# Altium footprint library RHX-NYFK-PCB11V1.011.PcbLib: 25 footprints (part 1 of 2)
Each footprint in its own frame and in the unit in brackets; x right, y up, seen from the top. Pads: shape width x height; smd on the part's side, far side on the other; paste and mask are expansions set on the pad; w line width, h text height; cw(c..) or ccw(c..) is an arc to the next point about the centre after c.
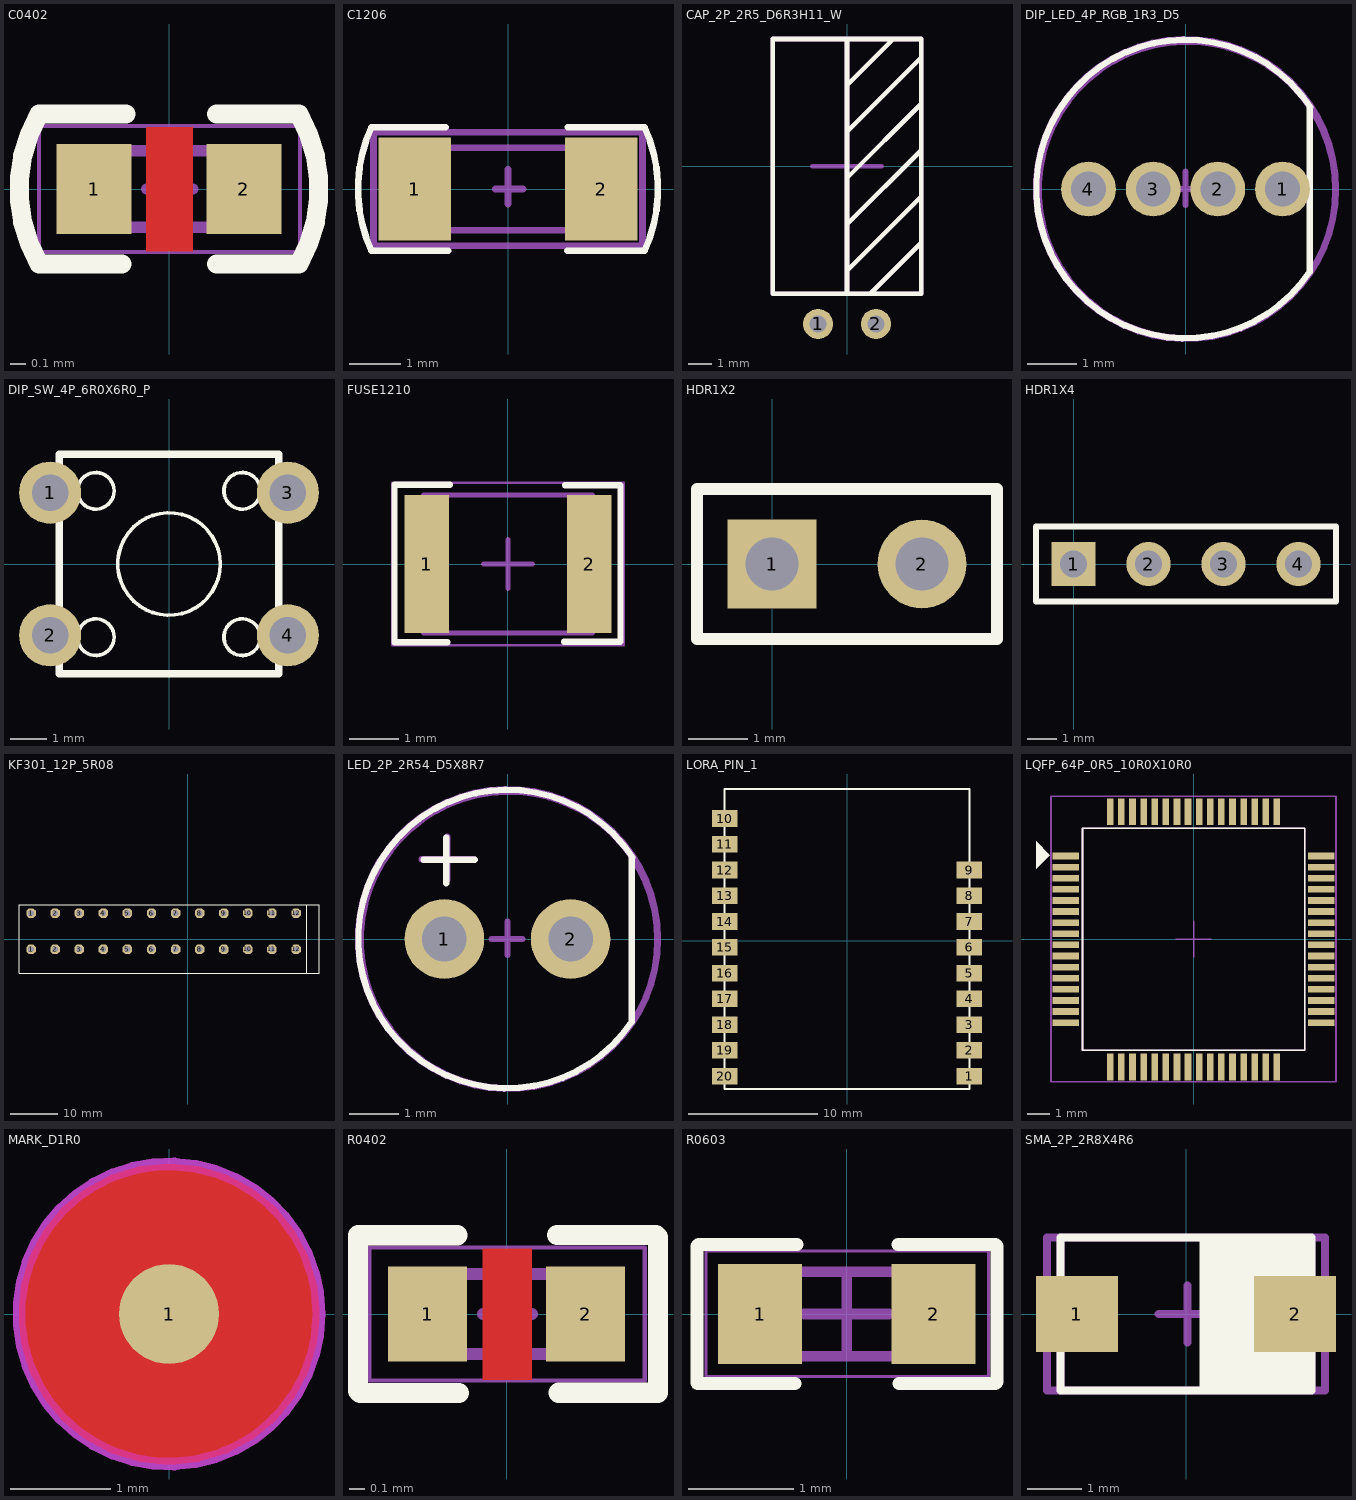
[diagram p0: the footprints below, top view; thin cyan lines are the x and y axes]

## C0402 [mm]
height 0.5
pads (2):
  rect 0.5x0.6 smd: 1(-0.5,0) 2(0.5,0)
Top Layer:
  pour cut-out: -0.15,0.413 -0.15,-0.416 0.16,-0.417 0.16,0.415
Top Overlay:
  lines w0.127: -0.866,-0.5 cw(c0,0) -0.866,0.5 ; -0.862,-0.5 -0.312,-0.5 ; -0.862,0.5 -0.287,0.5 ; 0.317,-0.5 0.866,-0.5 ccw(c0,0) 0.866,0.5 0.317,0.5
Mechanical 13:
  lines w0.076: -0.508,-0.254 0.508,-0.254 0.508,0.254 -0.508,0.254 -0.508,-0.254
Mechanical 15:
  lines w0.025: -0.866,-0.419 0.874,-0.419 0.874,0.419 -0.866,0.419 -0.866,-0.419
  lines w0.076: -0.15,0 0.16,0 ; 0,-0.21 0,0.2
3D body: height 0.01, standoff 0, extent -0.861,-0.429 0.879,0.409
3D body: height 0.51, standoff 0, extent -0.508,-0.254 0.508,0.254

## C1206 [mm]
height 0.5
pads (2):
  rect 1.4x2 smd: 1(-1.8,0) 2(1.8,0)
Top Overlay:
  lines w0.127: -1.204,1.196 -2.642,1.196 ccw(c0,0) -2.642,-1.196 -1.154,-1.196 ; 1.15,-1.196 2.642,-1.196 ccw(c0,0) 2.642,1.196 1.154,1.196
Mechanical 13:
  lines w0.127: -2,-0.8 2,-0.8 2,0.8 -0.4,0.8 -2,0.8 -2,-0.8
Mechanical 15:
  lines w0.127: -0.25,0 -0.001,0 0.29,0 ; 0,-0.29 0,0.38 ; -2.65,-1.1 2.6,-1.1 2.6,-0.75 2.6,1.1 -2.6,1.1 -2.6,-1.05 -2.65,-1.1
3D body: height 0.01, standoff 0, extent -2.601,-1.1 2.6,1.1
3D body: height 1.53, standoff 0, extent -2,-0.8 2,0.8

## CAP_2P_2R5_D6R3H11_W [mm]
height 0.5
pads (2):
  round 1.3 hole 0.75: 1(-1.25,-6.8) 2(1.25,-6.8)
Top Overlay:
  lines w0.2: 0,-5.5 0,5.5 ; 0,-4.5 3.2,-1.3 ; 0,-2.5 3.2,0.7 ; 0,-0.5 3.2,2.7 ; 0,1.5 3.2,4.7 ; 1,-5.5 3.2,-3.3 ; 2,5.5 0,3.5 ; 3,5.5 3.2,5.5 ; 0,3.5 0,3.5 ; 3.2,5.5 3.2,-5.5 -3.2,-5.5 -3.2,5.5 3.2,5.5 ; 0,4.5 0,4.5
Mechanical 13:
  lines w0.2: 0,-5.5 0,5.5 ; 0,-4.5 3.2,-1.3 ; 0,-2.5 3.2,0.7 ; 0,-0.5 3.2,2.7 ; 0,1.5 3.2,4.7 ; 1,-5.5 3.2,-3.3 ; 2,5.5 0,3.5 ; 3,5.5 3.2,5.5 ; 0,3.5 0,3.5 ; 3.2,5.5 -3.2,5.5 -3.2,-5.5 3.2,-5.5 3.2,5.5 ; 0,4.5 0,4.5
Mechanical 15:
  lines w0.2: -1.5,0 1.5,0 ; 0,-5.5 0,5.5 ; 0,-4.5 3.2,-1.3 ; 0,-2.5 3.2,0.7 ; 0,-1.5 0,1.5 3.2,4.7 ; 0,-0.5 3.2,2.7 ; 1,-5.5 3.2,-3.3 ; 2,5.5 0,3.5 ; 3,5.5 3.2,5.5 ; 0,3.5 0,3.5 ; 3.2,5.5 -3.2,5.5 -3.2,-5.5 3.2,-5.5 3.2,5.5 ; 0,4.5 0,4.5
3D body: height 6.38, standoff -2.8, extent -3.251,-7.66 3.1,5.661

## DIP_LED_4P_RGB_1R3_D5 [mm]
height 0.5
pads (4):
  round 1.1 hole 0.7: 1(1.95,0) 2(0.65,0) 3(-0.65,0) 4(-1.95,0)
Top Overlay:
  lines w0.127: 2.493,-1.669 cw(c0,0) 2.51,1.644 ; 2.5,-1.669 2.5,1.644
Mechanical 13:
  circle w0.127: c0.03,-0.02 r2.983
Mechanical 15:
  circle w0.127: c0.01,0 r3.015
  lines w0.127: -0.32,0 0.3,0 ; 0,-0.32 0,0.35
3D body: height 0.01, standoff 0, extent -2.98,-2.819 2.82,2.979
3D body: height 8.81, standoff -5.99, extent -2.98,-3.01 2.44,3.01

## DIP_SW_4P_6R0X6R0_P [mm]
height 0.5
pads (4):
  round 1.7 hole 1: 1(-3.25,1.95) 2(-3.25,-1.95) 3(3.25,1.95) 4(3.25,-1.95)
Top Overlay:
  circle w0.1: c0,0 r1.4
  circle w0.1: c-2,2 r0.5
  circle w0.1: c-2,-2 r0.5
  circle w0.1: c2,-2 r0.5
  circle w0.1: c2,2 r0.5
  circle w0.1: c0,0 r1.4
  circle w0.1: c-2,2 r0.5
  circle w0.1: c-2,-2 r0.5
  circle w0.1: c2,-2 r0.5
  circle w0.1: c2,2 r0.5
  circle w0.1: c2,2 r0.5
  circle w0.1: c2,-2 r0.5
  circle w0.1: c-2,-2 r0.5
  circle w0.1: c-2,2 r0.5
  circle w0.1: c0,0 r1.4
  lines w0.2: -3,-3 -3,3 ; -3,-3 3,-3 ; -3,-3 -3,3 ; -3,-3 3,-3 ; -3,-3 3,-3 ; -3,-3 -3,3 ; -3,3 3,3 ; -3,3 3,3 ; -3,3 3,3 ; 3,-3 3,3 ; 3,-3 3,3 ; 3,-3 3,3
3D body: height 7, standoff -3.5, extent -3.95,-3.1 3.95,3.1

## FUSE1210 [mm] "Chip Resistor, 2-Leads, Body 3.22x2.55mm, IPC Me"
height 0.8
pads (2):
  rect 0.9x2.8 smd: 1(-1.65,0) 2(1.65,0)
Top Overlay:
  lines w0.127: -1.23,-1.59 -2.31,-1.59 -2.31,1.61 -1.18,1.61 ; 1.14,-1.58 2.28,-1.58 2.29,-1.57 2.29,1.59 2.28,1.6 1.16,1.6
Mechanical 13:
  lines w0.1: -1.715,-1.4 -1.715,1.4 1.715,1.4 1.715,-1.4 -1.715,-1.4
Mechanical 15:
  lines w0.05: -2.35,-1.65 -2.35,1.65 2.35,1.65 2.35,-1.65 -2.35,-1.65
  lines w0.1: -0.5,0 0.5,0 ; 0,-0.5 0,0.5
3D body: height 0.01, standoff 0, extent -2.35,-1.65 2.35,1.65
3D body: height 0.67, standoff 0, extent -1.607,-1.287 1.608,1.288

## HDR1X2 [mm] "Connector; Header; 2"
height 0.5
pads (2):
  rect 1.5x1.5 hole 0.9: 1(0,0)
  round 1.5 hole 0.9: 2(2.54,0)
Top Overlay:
  lines w0.2: -1.27,-1.27 -1.27,1.27 3.81,1.27 3.81,-1.27 -1.27,-1.27

## HDR1X4 [mm] "Connector; Header; 4 Posi"
height 0.5
pads (4):
  rect 1.5x1.5 hole 0.9: 1(0,0)
  round 1.5 hole 0.9: 2(2.54,0) 3(5.08,0) 4(7.62,0)
Top Overlay:
  lines w0.2: -1.27,-1.27 -1.27,1.27 8.89,1.27 8.89,-1.27 -1.27,-1.27

## KF301_12P_5R08 [mm]
height 0.5
pads (24):
  oct 2x2 hole 1.2: 1(-33.02,-2.17) 1(-33.02,5.45) 2(-27.94,-2.17) 2(-27.94,5.45) 3(-22.86,-2.17) 3(-22.86,5.45) 4(-17.78,-2.17) 4(-17.78,5.45) 5(-12.7,-2.17) 5(-12.7,5.45) 6(-7.62,-2.17) 6(-7.62,5.45) 7(-2.54,-2.17) 7(-2.54,5.45) 8(2.54,-2.17) 8(2.54,5.45) 9(7.62,-2.17) 9(7.62,5.45) 10(12.7,-2.17) 10(12.7,5.45) 11(17.78,-2.17) 11(17.78,5.45) 12(22.86,-2.17) 12(22.86,5.45)
Top Overlay:
  lines w0.2: 25.16,-7.2 -35.56,-7.2 -35.56,7.2 25.16,7.2 ; 25.16,-7.2 25.16,7.2 ; 25.16,-7.2 27.7,-7.2 27.7,7.2 25.16,7.2
3D body: height 9.4, standoff 6.6, extent 16.3,-7.4 19.1,-6.4
3D body: height 9.4, standoff 6.6, extent 21.38,-7.4 24.18,-6.4
3D body: height 9.4, standoff 6.6, extent 6.14,-7.4 8.94,-6.4
3D body: height 9.4, standoff 6.6, extent 11.22,-7.4 14.02,-6.4
3D body: height 9.4, standoff 6.6, extent 16.3,-7.4 19.1,-6.4
3D body: height 9.4, standoff 6.6, extent 21.38,-7.4 24.18,-6.4
3D body: height 9.4, standoff 6.6, extent -14.18,-7.4 -11.38,-6.4
3D body: height 9.4, standoff 6.6, extent -9.1,-7.4 -6.3,-6.4
3D body: height 9.4, standoff 6.6, extent -4.02,-7.4 -1.22,-6.4
3D body: height 9.4, standoff 6.6, extent 1.06,-7.4 3.86,-6.4
3D body: height 9.4, standoff 6.6, extent -19.26,-7.4 -16.46,-6.4
3D body: height 9.4, standoff 6.6, extent -24.34,-7.4 -21.54,-6.4
3D body: height 9.4, standoff 6.6, extent -29.42,-7.4 -26.62,-6.4
3D body: height 9.4, standoff 6.6, extent -34.5,-7.4 -31.7,-6.4
3D body: height 13.2, standoff 0, extent 23.3,-1.36 24.8,1.14
3D body: height 13.2, standoff 0, extent 20.8,-6.36 24.8,-1.36
3D body: height 13.2, standoff 0, extent 20.8,-6.36 24.8,-1.36
3D body: height 13.2, standoff 0, extent 23.3,-1.36 24.8,1.14
3D body: height 13.2, standoff 0, extent 15.72,-6.36 19.72,-1.36
3D body: height 13.2, standoff 0, extent 18.22,-1.36 19.72,1.14
3D body: height 13.2, standoff 0, extent 13.14,-1.36 14.64,1.14
3D body: height 13.2, standoff 0, extent 10.64,-6.36 14.64,-1.36
3D body: height 13.2, standoff 0, extent 5.56,-6.36 9.56,-1.36
3D body: height 13.2, standoff 0, extent 8.06,-1.36 9.56,1.14
3D body: height 13.2, standoff 0, extent 0.48,-6.36 4.48,-1.36
3D body: height 13.2, standoff 0, extent 2.98,-1.36 4.48,1.14
3D body: height 13.2, standoff 0, extent -2.1,-1.36 -0.6,1.14
3D body: height 13.2, standoff 0, extent -4.6,-6.36 -0.6,-1.36
3D body: height 13.2, standoff 0, extent -9.68,-6.36 -5.68,-1.36
3D body: height 13.2, standoff 0, extent -7.18,-1.36 -5.68,1.14
3D body: height 13.2, standoff 0, extent -14.76,-6.36 -10.76,-1.36
3D body: height 13.2, standoff 0, extent -12.26,-1.36 -10.76,1.14
3D body: height 13.2, standoff 0, extent -17.34,-1.36 -15.84,1.14
3D body: height 13.2, standoff 0, extent -19.84,-6.36 -15.84,-1.36
3D body: height 13.2, standoff 0, extent -24.92,-6.36 -20.92,-1.36
3D body: height 13.2, standoff 0, extent -22.42,-1.36 -20.92,1.14
3D body: height 13.2, standoff 0, extent -30,-6.36 -26,-1.36
3D body: height 13.2, standoff 0, extent -27.5,-1.36 -26,1.14
3D body: height 13.2, standoff 0, extent -32.58,-1.36 -31.08,1.14
3D body: height 13.2, standoff 0, extent -35.08,-6.36 -31.08,-1.36
3D body: height 10.6, standoff 0, extent -35.5,-7.1 27.7,7.1

## LED_2P_2R54_D5X8R7 [mm]
height 0.5
pads (2):
  round 1.6 hole 0.9: 1(-1.27,0) 2(1.27,0)
Top Overlay:
  lines w0.127: -1.69,1.59 -0.66,1.59 ; -1.23,1.12 -1.23,2.04 ; 2.493,-1.669 cw(c0,0) 2.51,1.644 ; 2.5,-1.669 2.5,1.644
Mechanical 13:
  circle w0.127: c0.03,-0.02 r2.983
  lines w0.127: -1.73,1.6 -0.67,1.6 ; -1.21,1.19 -1.21,2.06
Mechanical 15:
  circle w0.127: c0.01,0 r3.015
  lines w0.127: -0.32,0 0.3,0 ; 0,-0.32 0,0.35
3D body: height 0.01, standoff 0, extent -2.98,-2.819 2.82,2.979
3D body: height 8.81, standoff -5.99, extent -2.98,-3.01 2.44,3.01

## LORA_PIN_1 [mm]
height 0.5
pads (20):
  rect 2x1.3 smd: 1(9.5,-10.5) 2(9.5,-8.5) 3(9.5,-6.5) 4(9.5,-4.5) 5(9.5,-2.5) 6(9.5,-0.5) 7(9.5,1.5) 8(9.5,3.5) 9(9.5,5.5) 10(-9.5,9.5) 11(-9.5,7.5) 12(-9.5,5.5) 13(-9.5,3.5) 14(-9.5,1.5) 15(-9.5,-0.5) 16(-9.5,-2.5) 17(-9.5,-4.5) 18(-9.5,-6.5) 19(-9.5,-8.5) 20(-9.5,-10.5)
Top Overlay:
  lines w0.15: -9.5,-11.5 9.5,-11.5 9.5,11.8 -9.5,11.8 -9.5,-11.5
3D body: height 1.7, standoff -0.01, extent -9.5,-11.5 9.5,11.754

## LQFP_64P_0R5_10R0X10R0 [mm]
height 0.5
pads (64):
  rect 1.2x0.3 smd: 1(-5.75,3.75) 2(-5.75,3.25) 3(-5.75,2.75) 4(-5.75,2.25) 5(-5.75,1.75) 6(-5.75,1.25) 7(-5.75,0.75) 8(-5.75,0.25) 9(-5.75,-0.25) 10(-5.75,-0.75) 11(-5.75,-1.25) 12(-5.75,-1.75) 13(-5.75,-2.25) 14(-5.75,-2.75) 15(-5.75,-3.25) 16(-5.75,-3.75) 33(5.75,-3.75) 34(5.75,-3.25) 35(5.75,-2.75) 36(5.75,-2.25) 37(5.75,-1.75) 38(5.75,-1.25) 39(5.75,-0.75) 40(5.75,-0.25) 41(5.75,0.25) 42(5.75,0.75) 43(5.75,1.25) 44(5.75,1.75) 45(5.75,2.25) 46(5.75,2.75) 47(5.75,3.25) 48(5.75,3.75)
  rect 0.3x1.2 smd: 17(-3.75,-5.75) 18(-3.25,-5.75) 19(-2.75,-5.75) 20(-2.25,-5.75) 21(-1.75,-5.75) 22(-1.25,-5.75) 23(-0.75,-5.75) 24(-0.25,-5.75) 25(0.25,-5.75) 26(0.75,-5.75) 27(1.25,-5.75) 28(1.75,-5.75) 29(2.25,-5.75) 30(2.75,-5.75) 31(3.25,-5.75) 32(3.75,-5.75) 49(3.75,5.75) 50(3.25,5.75) 51(2.75,5.75) 52(2.25,5.75) 53(1.75,5.75) 54(1.25,5.75) 55(0.75,5.75) 56(0.25,5.75) 57(-0.25,5.75) 58(-0.75,5.75) 59(-1.25,5.75) 60(-1.75,5.75) 61(-2.25,5.75) 62(-2.75,5.75) 63(-3.25,5.75) 64(-3.75,5.75)
Top Overlay:
  region: -6.485,3.785 -7.095,3.175 -7.095,4.405
  lines w0.075: -5,-5 -5,5 5,5 5,-5 -5,-5
Mechanical 13:
  lines w0.075: -5,-5 5,-5 5,5 -5,5 -5,-5
Mechanical 15:
  lines w0.075: -0.8,0 0.8,0 ; 0,-0.8 0,0.8 ; -6.42,-6.41 6.41,-6.41 6.41,6.44 -6.42,6.44 -6.42,-6.41
3D body: height 0.01, standoff 0, extent -6.42,-6.41 6.41,6.44
3D body: height 1.62, standoff -0.01, extent -6.072,-6.072 6.072,6.072

## MARK_D1R0 [mm]
height 0.5
pads (1):
  round 1 smd paste-0.5 mask+1: 1(0,0)
Top Layer:
  pour cut-out: 0,-1.5 -0.074,-1.5 -0.294,-1.478 -0.577,-1.392 -0.837,-1.253 -1.066,-1.066 -1.253,-0.837 -1.392,-0.577 -1.478,-0.294 -1.5,-0.074 -1.5,0 -1.5,0.074 -1.478,0.294 -1.392,0.577 -1.253,0.837 -1.066,1.066 -0.837,1.253 -0.577,1.392 -0.294,1.478 -0.074,1.5 0,1.5 0.074,1.5 0.294,1.478 0.577,1.392 0.837,1.253 1.066,1.066 1.253,0.837 1.392,0.577 1.478,0.294 1.5,0.074 1.5,0 1.5,-0.074 1.478,-0.294 1.392,-0.577 1.253,-0.837 1.066,-1.066 0.837,-1.253 0.577,-1.392 0.294,-1.478 0.074,-1.5
Mechanical 15 keep-out:
  circle w0.127: c0,0 r1.5
3D body: height 0.01, standoff 0, extent -1.5,-1.499 1.5,1.5

## R0402 [mm]
height 0.5
pads (2):
  rect 0.5x0.6 smd: 1(-0.5,0) 2(0.5,0)
Top Layer:
  pour cut-out: -0.15,0.413 -0.15,-0.416 0.16,-0.417 0.16,0.415
Top Overlay:
  lines w0.127: -0.31,0.498 -0.94,0.498 -0.94,-0.488 -0.927,-0.501 -0.3,-0.501 ; 0.318,0.501 0.945,0.501 ; 0.328,-0.498 0.958,-0.498 0.958,0.488
Mechanical 13:
  lines w0.076: -0.508,-0.254 -0.508,0.254 0.508,0.254 0.508,-0.254 -0.508,-0.254
Mechanical 15:
  lines w0.025: -0.866,-0.419 -0.866,0.419 0.874,0.419 0.874,-0.419 -0.866,-0.419
  lines w0.076: -0.15,0 0.16,0 ; 0,-0.21 0,0.2
3D body: height 0.01, standoff 0, extent -0.861,-0.429 0.879,0.409
3D body: height 0.51, standoff 0, extent -0.508,-0.254 0.508,0.254

## R0603 [mm]
height 0.5
pads (2):
  rect 0.8x0.95 smd: 1(-0.825,0) 2(0.825,0)
Top Overlay:
  lines w0.127: -0.495,-0.66 -1.016,-0.66 -1.42,-0.66 -1.425,-0.655 -1.425,0.645 -1.41,0.66 -1.016,0.66 -0.475,0.66 ; 0.488,0.66 1.016,0.66 1.412,0.66 1.427,0.645 1.427,-0.643 1.41,-0.66 1.016,-0.66 0.495,-0.66
Mechanical 13:
  lines w0.1: -0.8,-0.4 0.8,-0.4 0.8,0.4 -0.8,0.4 -0.8,-0.4
Mechanical 15:
  lines w0.025: -1.339,-0.594 1.346,-0.594 1.346,0.599 -1.339,0.599 -1.339,-0.594
  lines w0.1: -0.4,0 0.4,0 ; 0,-0.4 0,0.4
3D body: height 0.01, standoff 0, extent -1.342,-0.599 1.343,0.615
3D body: height 0.79, standoff 0, extent -1,-0.394 1,0.394

## SMA_2P_2R8X4R6 [mm]
height 0.5
pads (2):
  rect 1.5x1.4 smd paste+0 mask+0.025: 1(-2,0) 2(2,0)
Top Overlay:
  rectangle: 0.25,-1.4 2.3,1.4
  lines w0.15: -2.3,-1.4 2.3,-1.4 2.3,1.4 -2.3,1.4 -2.3,-1.4
Mechanical 13:
  lines w0.15: -2.3,-1.4 -2.3,1.4 2.3,1.4 2.3,-1.4 -2.3,-1.4
Mechanical 15:
  lines w0.15: -0.5,0 0.55,0 ; 0.025,-0.525 0.025,0.525 ; -2.55,-1.4 -2.55,1.4 2.55,1.4 2.55,-1.4 -2.55,-1.4
3D body: height 2.15, standoff -0.05, extent -2.5,-1.35 2.5,1.35